# Altium footprint library Sheye-Radiator.PcbLib: 9 footprints
Each footprint in its own frame and in the unit in brackets; x right, y up, seen from the top. Pads: shape width x height; smd on the part's side, far side on the other; paste and mask are expansions set on the pad; w line width, h text height; cw(c..) or ccw(c..) is an arc to the next point about the centre after c.
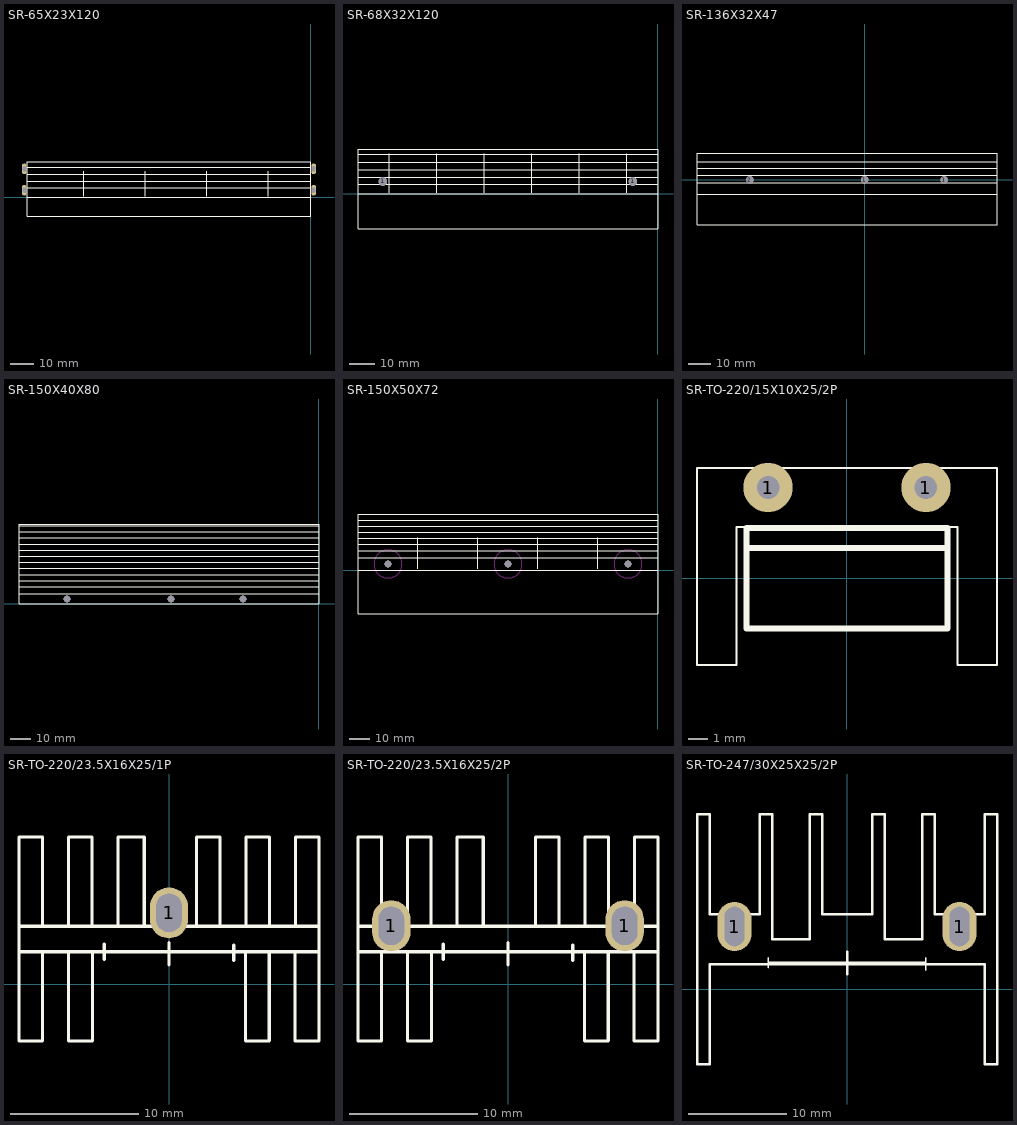
[diagram p0: the footprints below, top view; thin cyan lines are the x and y axes]

## SR-65X23X120 [mm]
pads (4):
  oval 2x4.5 hole 1.2 slot 2.2 at 90 deg: 0(-121.2,3) 0(-121.2,12) 0(1.2,3) 0(1.2,12)
Top Overlay:
  lines w0.203: -120,0 0,0 ; -120,4 0,4 ; -120,9.712 0,9.712 ; -120,12.76 0,12.76 ; -119.873,6.858 0,6.858 ; -120,-8 0,-8 0,15 -120,15 -120,-8
  lines w0.254: -96,0.508 -96,10.922 ; -70,0.508 -70,10.922 ; -44,0.508 -44,10.922 ; -18,0.508 -18,10.922
3D body: height 65, standoff -7, extent -121.683,-8.014 1.651,14.986

## SR-68X32X120 [mm]
pads (2):
  round 3.4 hole 3.4: 1(-110,5) 1(-10,5)
Top Overlay:
  lines w0.203: -120,0 0,0 ; -120,4 0,4 ; -120,6.731 0,6.731 ; -120,9.712 0,9.712 ; -120,12.76 0,12.76 ; -120,15.808 0,15.808 ; -120,-14 -120,18 0,18 0,-14 -120,-14
  lines w0.254: -107.5,0.508 -107.5,16.129 ; -88.5,0.508 -88.5,16.129 ; -69.5,0.508 -69.5,16.129 ; -50.5,0.508 -50.5,16.129 ; -31.5,0.508 -31.5,16.129 ; -12.5,0.508 -12.5,16.129
3D body: height 68, standoff 0, extent -120.015,-14.097 -0.015,17.903

## SR-136X32X47 [mm]
pads (3):
  round 3.4 hole 3.4: 1(0,0) 1(36,0) 2(-52,0)
Top Overlay:
  lines w0.203: -76,-6.5 60,-6.5 ; -76,-1.42 60,-1.42 ; -76,2.136 60,2.136 ; -76,5.184 60,5.184 ; -76,8.232 60,8.232 ; -76,-20.3 -76,12 60,12 60,-20.3 -76,-20.3
3D body: height 8.6, standoff 7.2, extent -75.946,-4.318 59.944,11.938
3D body: height 13.4, standoff 12, extent -75.946,-4.318 59.944,11.938
3D body: height 18.2, standoff 16.8, extent -75.946,-4.318 59.944,11.938
3D body: height 23, standoff 21.6, extent -75.946,-4.318 59.944,11.938
3D body: height 32.6, standoff 31.2, extent -75.946,-20.32 59.944,11.938
3D body: height 37.4, standoff 36, extent -75.946,-20.32 59.944,11.938
3D body: height 47, standoff 45.6, extent -75.946,-20.32 59.944,11.938
3D body: height 47, standoff 0, extent -75.946,-6.477 59.944,-1.397
3D body: height 42.2, standoff 40.8, extent -75.946,-20.32 59.944,11.938
3D body: height 27.8, standoff 26.4, extent -75.946,-4.318 59.944,11.938
3D body: height 1.4, standoff 0, extent -75.946,-4.318 59.944,11.938
3D body: height 7.2, standoff 0, extent -75.946,-4.318 59.944,2.54

## SR-150X40X80 [mm]
pads (3):
  round 3.4 hole 3.4: 1(-74,2.5) 1(-38,2.5) 2(-126,2.5)
Top Overlay:
  lines w0.203: -150,5 0,5 ; -150,8.636 0,8.636 ; -150,11.684 0,11.684 ; -150,14.732 0,14.732 ; -150,17.78 0,17.78 ; -150,20.828 0,20.828 ; -150,23.876 0,23.876 ; -150,26.924 0,26.924 ; -150,29.972 0,29.972 ; -150,33.02 0,33.02 ; -150,36.068 0,36.068 ; -150,39.116 0,39.116 ; -150,0 -150,40 0,40 0,0 -150,0
3D body: height 80, standoff 78, extent -150,2.244 0,40
3D body: height 67, standoff 65, extent -150,2.244 0,40
3D body: height 54, standoff 52, extent -150,2.244 0,40
3D body: height 41, standoff 39, extent -150,2.244 0,40
3D body: height 28, standoff 26, extent -150,2.244 0,40
3D body: height 15, standoff 13, extent -150,2.244 0,40
3D body: height 2, standoff 0, extent -150,2.244 0,40
3D body: height 80, standoff 0, extent -149.946,0.023 0,5.103

## SR-150X50X72 [mm]
pads (3):
  round 3.4 hole 3.4: 1(-135,3) 1(-75,3) 1(-15,3)
Top Overlay:
  lines w0.203: -150,0 0,0 ; -150,6 0,6 ; -150,9.712 0,9.712 ; -150,12.76 0,12.76 ; -150,15.808 0,15.808 ; -150,18.856 0,18.856 ; -150,21.904 0,21.904 ; -150,24.952 0,24.952 ; -150,-22 -150,28 0,28 0,-22 -150,-22
  lines w0.254: -90,0.508 -90,16.129 ; -60,0.508 -60,16.129 ; -30,0.508 -30,16.129 ; -120,0.508 -120,16.129 -120,0.508
Keep-Out Layer:
  circle w0.2: c-15,3 r7
  circle w0.2: c-75,3 r7
  circle w0.2: c-135,3 r7
3D body: height 7, standoff 5.5, extent -150,2.244 0,28
3D body: height 72, standoff 0, extent -149.946,0.023 0,6
3D body: height 13.5, standoff 12, extent -150,2.244 0,28
3D body: height 20, standoff 18.5, extent -150,2.244 0,28
3D body: height 26.5, standoff 25, extent -150,2.244 0,28
3D body: height 33, standoff 31.5, extent -150,2.244 0,28
3D body: height 39.5, standoff 38, extent -150,-22 0,28
3D body: height 46, standoff 44.5, extent -150,-22 0,28
3D body: height 52.5, standoff 51, extent -150,-22 0,28
3D body: height 59, standoff 57.5, extent -150,-22 0,28
3D body: height 65.5, standoff 64, extent -150,-22 0,28
3D body: height 72, standoff 70.5, extent -150,-22 0,28
3D body: height 1.5, standoff 0, extent -150,2.244 0,28

## SR-TO-220/15X10X25/2P [mm]
pads (2):
  round 2.5 hole 1.143: 1(-4,4.6) 1(4,4.6)
Top Overlay:
  lines w0.102: -7.6,-4.4 -5.6,-4.4 -5.6,2.6 5.6,2.6 5.6,-4.4 7.6,-4.4 7.6,5.6 -7.6,5.6 -7.6,-4.4
  lines w0.305: -5.08,1.524 5.08,1.524 ; -5.08,-2.54 5.08,-2.54 5.08,2.54 -5.08,2.54 -5.08,-2.54
3D body: height 25, standoff 0, extent -7.62,-4.42 7.595,5.613
3D body: height 12, standoff 0, extent -4.47,4.623 -3.474,5.621
3D body: height 12, standoff 0, extent 3.53,4.623 4.526,5.621

## SR-TO-220/23.5X16X25/1P [mm]
pads (1):
  oval 3x4 hole 2 slot 3 at 90 deg: 1(0,5.588)
Top Overlay:
  lines w0.254: -11.75,2.54 11.75,2.54 ; -11.75,4.54 11.75,4.54 ; -9.906,2.54 -9.906,-4.46 -11.75,-4.46 -11.75,11.54 -9.906,11.54 ; -9.906,4.682 -9.906,11.54 ; -7.874,2.54 -7.874,-4.46 -6,-4.46 -6,2.444 ; -7.874,4.682 -7.874,11.54 -6.03,11.54 -6.03,4.682 ; -5.08,1.925 -5.08,3.124 ; -3.998,4.682 -3.998,11.54 -1.946,11.54 -1.946,4.582 ; 0,1.524 0,3.251 ; 2.159,4.547 2.159,11.54 3.998,11.54 3.998,4.54 ; 5.08,1.878 5.08,3.048 ; 6,2.444 6,-4.46 7.808,-4.46 7.849,-4.42 7.844,2.54 ; 6.03,4.54 6.03,11.54 7.874,11.54 7.874,4.54 ; 9.876,2.54 9.876,-4.46 11.75,-4.46 11.75,11.54 9.906,11.54 9.906,4.54 ; -9.906,11.54 -9.906,11.54
  lines w0.305: -5.08,2.54 5.08,2.54
3D body: height 25, standoff 0, extent -11.811,-4.445 11.811,11.557
3D body: height 12, standoff 0, extent -0.991,5.258 1.002,7.254
3D body: height 25, standoff 0, extent -2.134,3.785 2.616,5.867

## SR-TO-220/23.5X16X25/2P [mm]
pads (2):
  oval 3x4 hole 2 slot 3 at 90 deg: 1(-9.144,4.572) 1(9.144,4.572)
Top Overlay:
  lines w0.254: -11.75,2.54 11.75,2.54 ; -11.75,4.54 11.75,4.54 ; -9.906,2.54 -9.906,-4.46 -11.75,-4.46 -11.75,11.54 -9.906,11.54 ; -9.906,4.682 -9.906,11.54 ; -7.874,2.54 -7.874,-4.46 -6,-4.46 -6,2.444 ; -7.874,4.682 -7.874,11.54 -6.03,11.54 -6.03,4.682 ; -5.08,1.925 -5.08,3.124 ; -3.998,4.682 -3.998,11.54 -1.946,11.54 -1.946,4.582 ; 0,1.524 0,3.251 ; 2.159,4.547 2.159,11.54 3.998,11.54 3.998,4.54 ; 5.08,1.878 5.08,3.048 ; 6,2.444 6,-4.46 7.808,-4.46 7.849,-4.42 7.844,2.54 ; 6.03,4.54 6.03,11.54 7.874,11.54 7.874,4.54 ; 9.876,2.54 9.876,-4.46 11.75,-4.46 11.75,11.54 9.906,11.54 9.906,4.54 ; -9.906,11.54 -9.906,11.54
  lines w0.305: -5.08,2.54 5.08,2.54
3D body: height 12, standoff 0, extent 8.153,4.242 10.146,6.238
3D body: height 12, standoff 0, extent -10.135,4.242 -8.142,6.238
3D body: height 25, standoff 0, extent -11.811,-4.445 11.811,11.557

## SR-TO-247/30X25X25/2P [mm] "MOS-TO-247-L"
pads (2):
  oval 3.5x5 hole 2 slot 4 at 90 deg: 1(-11.43,6.35) 1(11.43,6.35)
Top Overlay:
  lines w0.2: -8.001,2.159 -8.001,3.175 ; -8.001,2.697 8.001,2.697 ; 8.001,1.905 8.001,3.175
  lines w0.254: 0,1.524 0,3.81 ; -15.24,-7.62 -15.24,17.78 -13.97,17.78 -13.97,7.62 -8.89,7.62 -8.89,17.78 -7.62,17.78 -7.62,5.08 -3.81,5.08 -3.81,17.78 -2.54,17.78 -2.54,7.62 2.54,7.62 2.54,17.78 3.81,17.78 3.81,5.08 7.62,5.08 7.62,17.78 8.89,17.78 8.89,7.62 13.97,7.62 13.97,17.78 15.24,17.78 15.24,-7.62 13.97,-7.62 13.97,2.54 -13.97,2.54 -13.97,-7.62 -15.24,-7.62
3D body: height 25, standoff 0, extent -15.24,-7.62 15.24,17.78
3D body: height 18, standoff 0, extent -12.446,6.604 -10.454,8.6
3D body: height 18, standoff 0, extent 10.414,6.604 12.406,8.6